# Altium integrated library Vishay-RS07.IntLib: 5 symbols
Pins are listed as number, name and electrical type; pins without a type are passive.

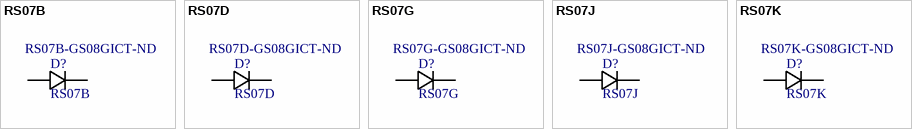
[diagram p0: symbols RS07B to RS07K]

## RS07B
designator D?  Supplier Part Number 1: RS07B-GS08GICT-ND
Vishay Semiconductors / SMD Fast Rectifire / 100V, 500mA; Supplier 1: Digi-Key
footprint SMF (DO-219AB) (Vishay Semiconductors, Diode, SMF (DO-219AB) Package)
pins: 1, 2

## RS07D
designator D?  Supplier Part Number 1: RS07D-GS08GICT-ND
Vishay Semiconductors / SMD Fast Rectifire / 200V, 500mA; Supplier 1: Digi-Key
footprint SMF (DO-219AB) (Vishay Semiconductors, Diode, SMF (DO-219AB) Package)
pins: 1, 2

## RS07G
designator D?  Supplier Part Number 1: RS07G-GS08GICT-ND
Vishay Semiconductors / SMD Fast Rectifire / 400V, 500mA; Supplier 1: Digi-Key
footprint SMF (DO-219AB) (Vishay Semiconductors, Diode, SMF (DO-219AB) Package)
pins: 1, 2

## RS07J
designator D?  Supplier Part Number 1: RS07J-GS08GICT-ND
Vishay Semiconductors / SMD Fast Rectifire / 600V, 500mA; Supplier 1: Digi-Key
footprint SMF (DO-219AB) (Vishay Semiconductors, Diode, SMF (DO-219AB) Package)
pins: 1, 2

## RS07K
designator D?  Supplier Part Number 1: RS07K-GS08GICT-ND
Vishay Semiconductors / SMD Fast Rectifire / 800V, 500mA; Supplier 1: Digikey
footprint SMF (DO-219AB) (Vishay Semiconductors, Diode, SMF (DO-219AB) Package)
pins: 1, 2